# Altium schematic symbol library 2020-01-24_05-05-02.SchLib: 2 symbols
Pins are listed as number, name and electrical type; pins without a type are passive.

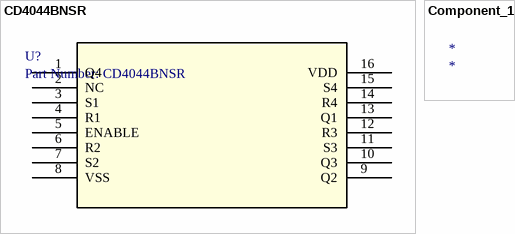
[diagram p0: symbols CD4044BNSR to Component_1]

## CD4044BNSR
designator U?, comment Part Number: CD4044BNSR
No Description Available; Manufacturer: Texas Instruments; Built_By: EMA_UL_Team; Vendor: Texas Instruments; Manufacturer_Part_Number: CD4044BNSR; Copyright: Copyright (C) 2018 Accelerated Designs. All rights reserved; RefDes: RefDes; Type: DEV; Value: Value
footprint NS16
pins: 1 Q4, 2 NC, 3 S1, 4 R1, 5 ENABLE, 6 R2, 7 S2, 8 VSS (power), 9 Q2, 10 Q3, 11 S3, 12 R3, 13 Q1, 14 R4, 15 S4, 16 VDD (power)

## Component_1
designator *